# EAGLE library part PIC16F877 (library FP-21T for MITS)
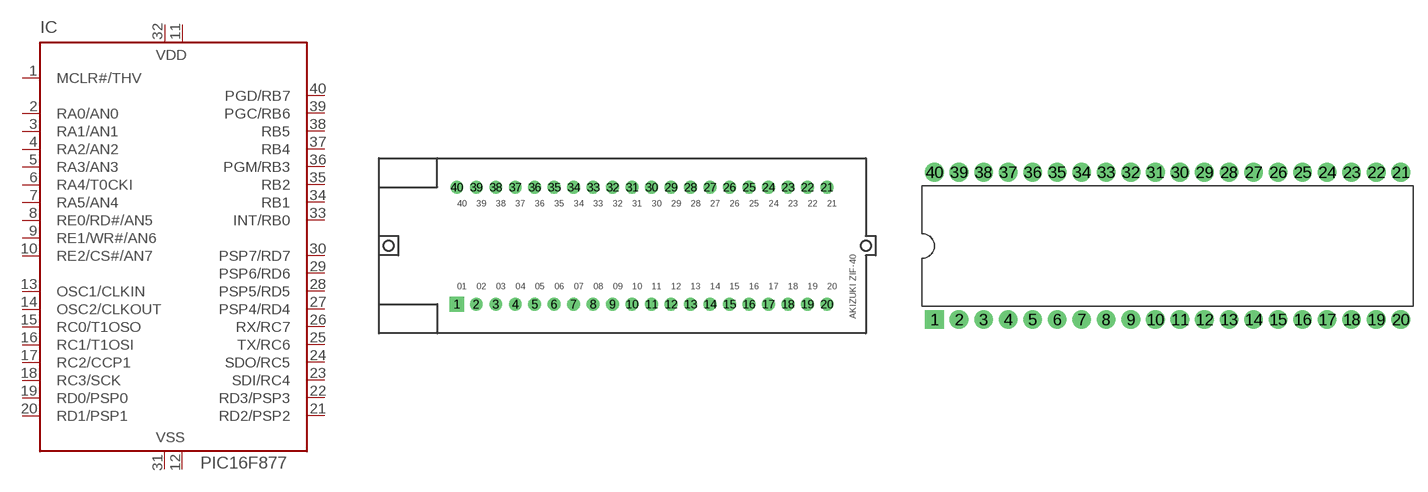
[diagram p3: symbol with the pads of AKI-ZIF40; footprints AKI-ZIF40, DIL40]

Designator prefix IC

## PIC16F877ZIF  [AKI-ZIF40]
1  MCLR#/THV  in
2  RA0/AN0
3  RA1/AN1
4  RA2/AN2
5  RA3/AN3
6  RA4/T0CKI
7  RA5/AN4
8  RE0/RD#/AN5
9  RE1/WR#/AN6
10  RE2/CS#/AN7
11  VDD  pwr
12  VSS  pwr
13  OSC1/CLKIN  pas
14  OSC2/CLKOUT  pas
15  RC0/T1OSO
16  RC1/T1OSI
17  RC2/CCP1
18  RC3/SCK
19  RD0/PSP0
20  RD1/PSP1
21  RD2/PSP2
22  RD3/PSP3
23  SDI/RC4
24  SDO/RC5
25  TX/RC6
26  RX/RC7
27  PSP4/RD4
28  PSP5/RD5
29  PSP6/RD6
30  PSP7/RD7
31  VSS  pwr
32  VDD  pwr
33  INT/RB0
34  RB1
35  RB2
36  PGM/RB3
37  RB4
38  RB5
39  PGC/RB6
40  PGD/RB7

## PIC16F877  [DIL40]
Pads as for AKI-ZIF40

## Footprint AKI-ZIF40 (pad centres in mm)
drill 0.8 pad 1.93 square: 1 -21.59,-7.62
drill 0.8 pad 1.676: 2 -19.05,-7.62; 3 -16.51,-7.62; 4 -13.97,-7.62; 5 -11.43,-7.62; 6 -8.89,-7.62; 7 -6.35,-7.62; 8 -3.81,-7.62; 9 -1.27,-7.62; 10 1.27,-7.62; 11 3.81,-7.62; 12 6.35,-7.62; 13 8.89,-7.62; 14 11.43,-7.62; 15 13.97,-7.62; 16 16.51,-7.62; 17 19.05,-7.62; 18 21.59,-7.62; 19 24.13,-7.62; 20 26.67,-7.62; 21 26.67,7.62; 22 24.13,7.62; 23 21.59,7.62; 24 19.05,7.62; 25 16.51,7.62; 26 13.97,7.62; 27 11.43,7.62; 28 8.89,7.62; 29 6.35,7.62; 30 3.81,7.62; 31 1.27,7.62; 32 -1.27,7.62; 33 -3.81,7.62; 34 -6.35,7.62; 35 -8.89,7.62; 36 -11.43,7.62; 37 -13.97,7.62; 38 -16.51,7.62; 39 -19.05,7.62; 40 -21.59,7.62

## Footprint DIL40 (pad centres in mm)
Dual In Line package type P
drill 0.813 pad 1.93 square: 1 -24.13,-7.62
drill 0.813 pad 1.93: 2 -21.59,-7.62; 3 -19.05,-7.62; 4 -16.51,-7.62; 5 -13.97,-7.62; 6 -11.43,-7.62; 7 -8.89,-7.62; 8 -6.35,-7.62; 9 -3.81,-7.62; 10 -1.27,-7.62; 11 1.27,-7.62; 12 3.81,-7.62; 13 6.35,-7.62; 14 8.89,-7.62; 15 11.43,-7.62; 16 13.97,-7.62; 17 16.51,-7.62; 18 19.05,-7.62; 19 21.59,-7.62; 20 24.13,-7.62; 21 24.13,7.62; 22 21.59,7.62; 23 19.05,7.62; 24 16.51,7.62; 25 13.97,7.62; 26 11.43,7.62; 27 8.89,7.62; 28 6.35,7.62; 29 3.81,7.62; 30 1.27,7.62; 31 -1.27,7.62; 32 -3.81,7.62; 33 -6.35,7.62; 34 -8.89,7.62; 35 -11.43,7.62; 36 -13.97,7.62; 37 -16.51,7.62; 38 -19.05,7.62; 39 -21.59,7.62; 40 -24.13,7.62